# Altium integrated library FPGA Generic.IntLib: 1651 symbols (part 12 of 20)
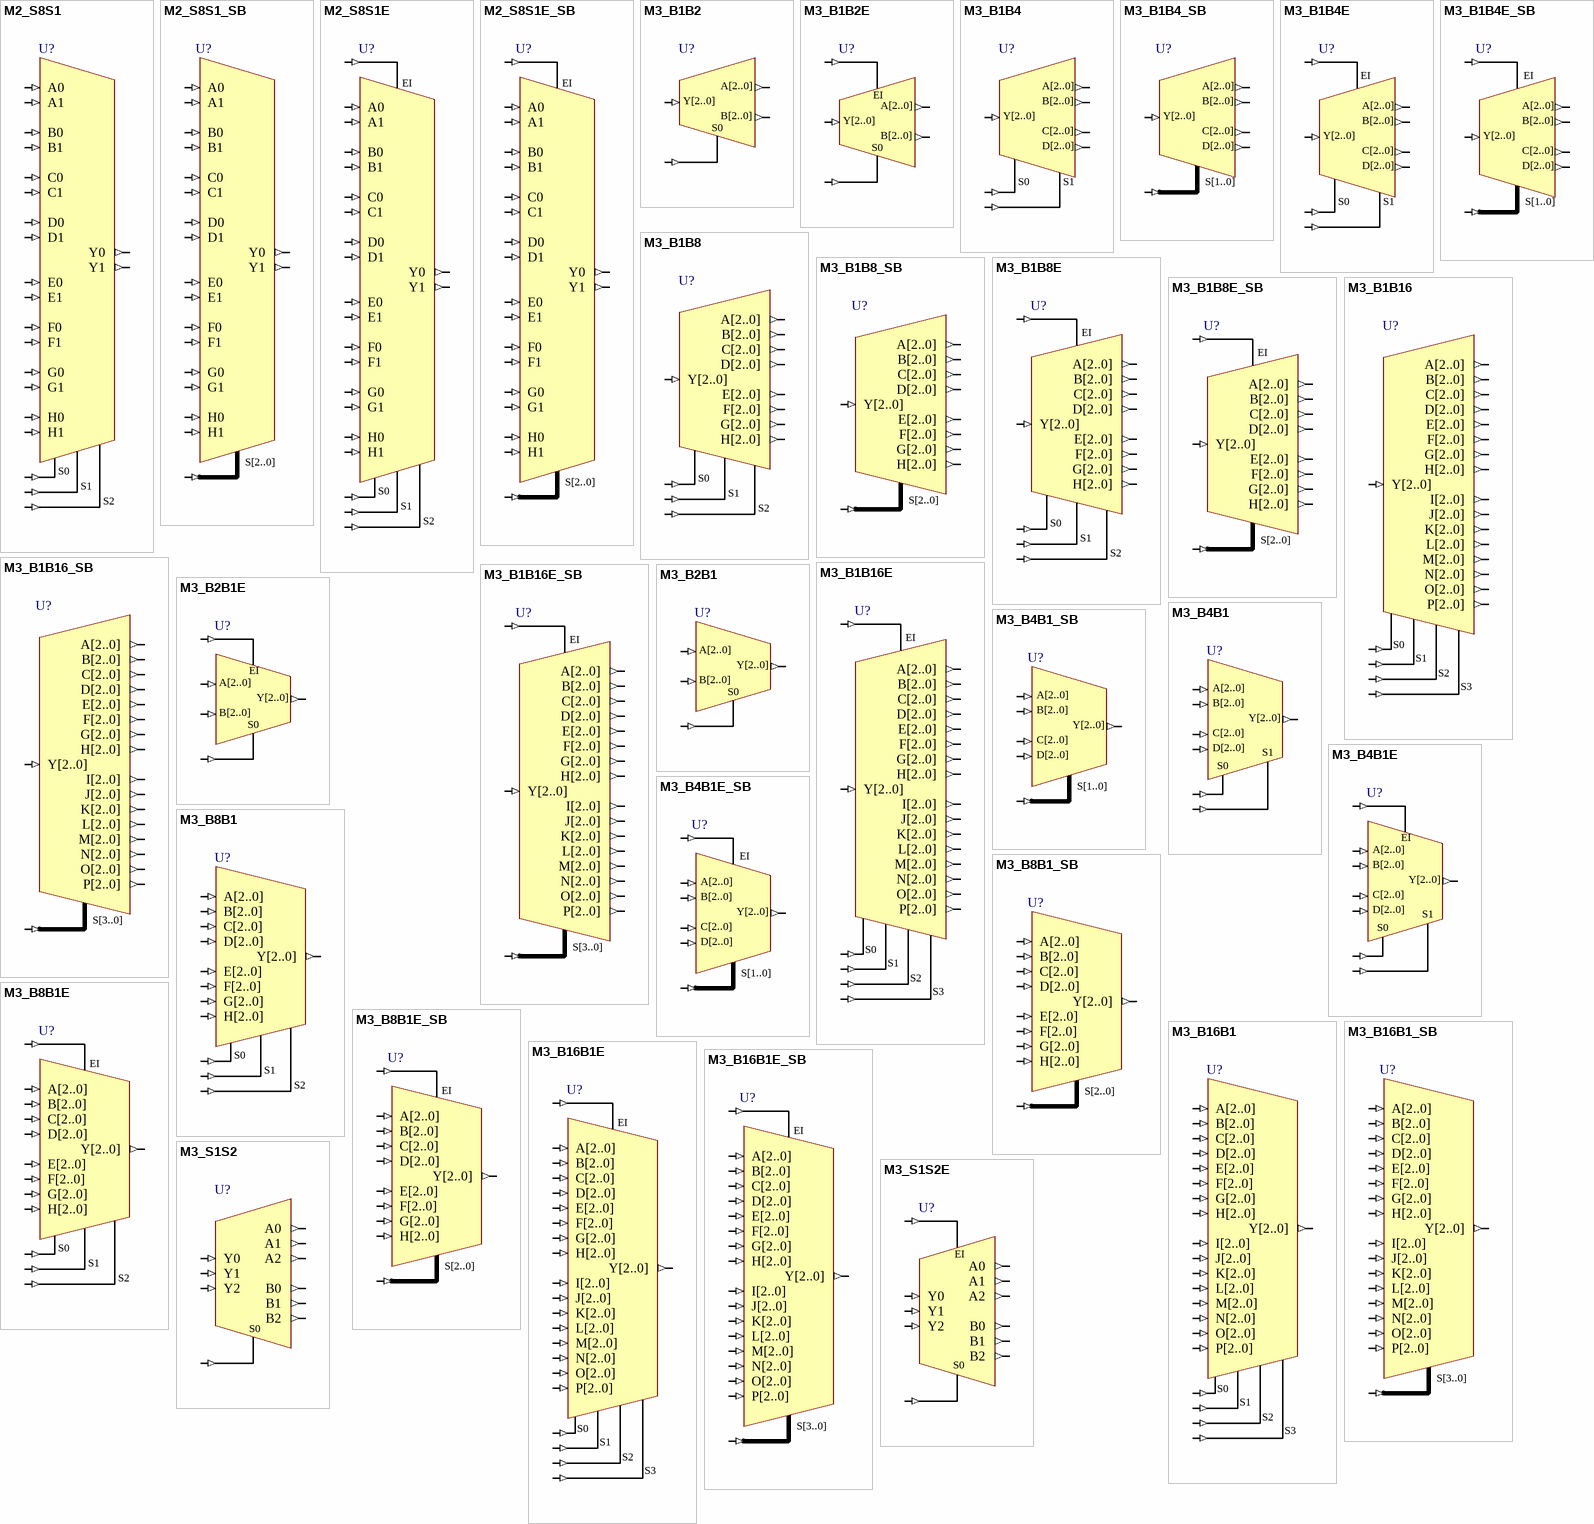
[diagram p54: symbols M2_S8S1 to M3_S1S2E]

## M3_B16B1E
designator U?
16x3-Bit Bus to 1x3-Bit Bus Multiplexer With Enable; SubClass: BnB1; Enable: High; PortSize: 3; ArchiveName: GENERIC; VHDLIB_SIM: GENERIC_LIB; Published: 29-Jan-2004; Publisher: Altium Limited; LastRevisionNo: 1.00.00; HelpURL: CR0118 FPGA Generic Library Guide.pdf#page=393; ComponentLink1URL: CR0137 FPGA Multiplexer Resource Usage.pdf#page=138; ComponentLink1Description: Core &Resource Usage; FunctionalClass: Multiplexer
pins: A[2..0] (in), B[2..0] (in), C[2..0] (in), D[2..0] (in), E[2..0] (in), EI (in), F[2..0] (in), G[2..0] (in), H[2..0] (in), I[2..0] (in), J[2..0] (in), K[2..0] (in), L[2..0] (in), M[2..0] (in), N[2..0] (in), O[2..0] (in), P[2..0] (in), S0 (in), S1 (in), S2 (in), S3 (in), Y[2..0] (out)

## M3_B16B1E_SB
designator U?
16x3-Bit Bus to 1x3-Bit Bus Multiplexer With Enable and Bus Version Select; SubClass: BnB1; Enable: High; BusBusSelect: True; PortSize: 3; ArchiveName: GENERIC; VHDLIB_SIM: GENERIC_LIB; Published: 29-Jan-2004; Publisher: Altium Limited; LastRevisionNo: 1.00.00; HelpURL: CR0118 FPGA Generic Library Guide.pdf#page=393; ComponentLink1URL: CR0137 FPGA Multiplexer Resource Usage.pdf#page=139; ComponentLink1Description: Core &Resource Usage; FunctionalClass: Multiplexer
pins: A[2..0] (in), B[2..0] (in), C[2..0] (in), D[2..0] (in), E[2..0] (in), EI (in), F[2..0] (in), G[2..0] (in), H[2..0] (in), I[2..0] (in), J[2..0] (in), K[2..0] (in), L[2..0] (in), M[2..0] (in), N[2..0] (in), O[2..0] (in), P[2..0] (in), S[3..0] (in), Y[2..0] (out)

## M3_S1S2
designator U?
1x3-Single Wire to 2x3-Single Wire Multiplexer (Demultiplex); SubClass: S1Sn; PortSize: 3; PortStyle: Single Pin Version; ArchiveName: GENERIC; VHDLIB_SIM: GENERIC_LIB; Published: 29-Jan-2004; Publisher: Altium Limited; LastRevisionNo: 1.00.00; HelpURL: CR0118 FPGA Generic Library Guide.pdf#page=328; ComponentLink1URL: CR0137 FPGA Multiplexer Resource Usage.pdf#page=140; ComponentLink1Description: Core &Resource Usage; FunctionalClass: Multiplexer
pins: A0 (out), A1 (out), A2 (out), B0 (out), B1 (out), B2 (out), S0 (in), Y0 (in), Y1 (in), Y2 (in)

## M3_S1S2E
designator U?
1x3-Single Wire to 1x3-Single Wire Multiplexer (Demultiplex) With Enable; SubClass: S1Sn; Enable: High; PortSize: 3; PortStyle: Single Pin Version; ArchiveName: GENERIC; VHDLIB_SIM: GENERIC_LIB; Published: 29-Jan-2004; Publisher: Altium Limited; LastRevisionNo: 1.00.00; HelpURL: CR0118 FPGA Generic Library Guide.pdf#page=331; ComponentLink1URL: CR0137 FPGA Multiplexer Resource Usage.pdf#page=141; ComponentLink1Description: Core &Resource Usage; FunctionalClass: Multiplexer
pins: A0 (out), A1 (out), A2 (out), B0 (out), B1 (out), B2 (out), EI (in), S0 (in), Y0 (in), Y1 (in), Y2 (in)

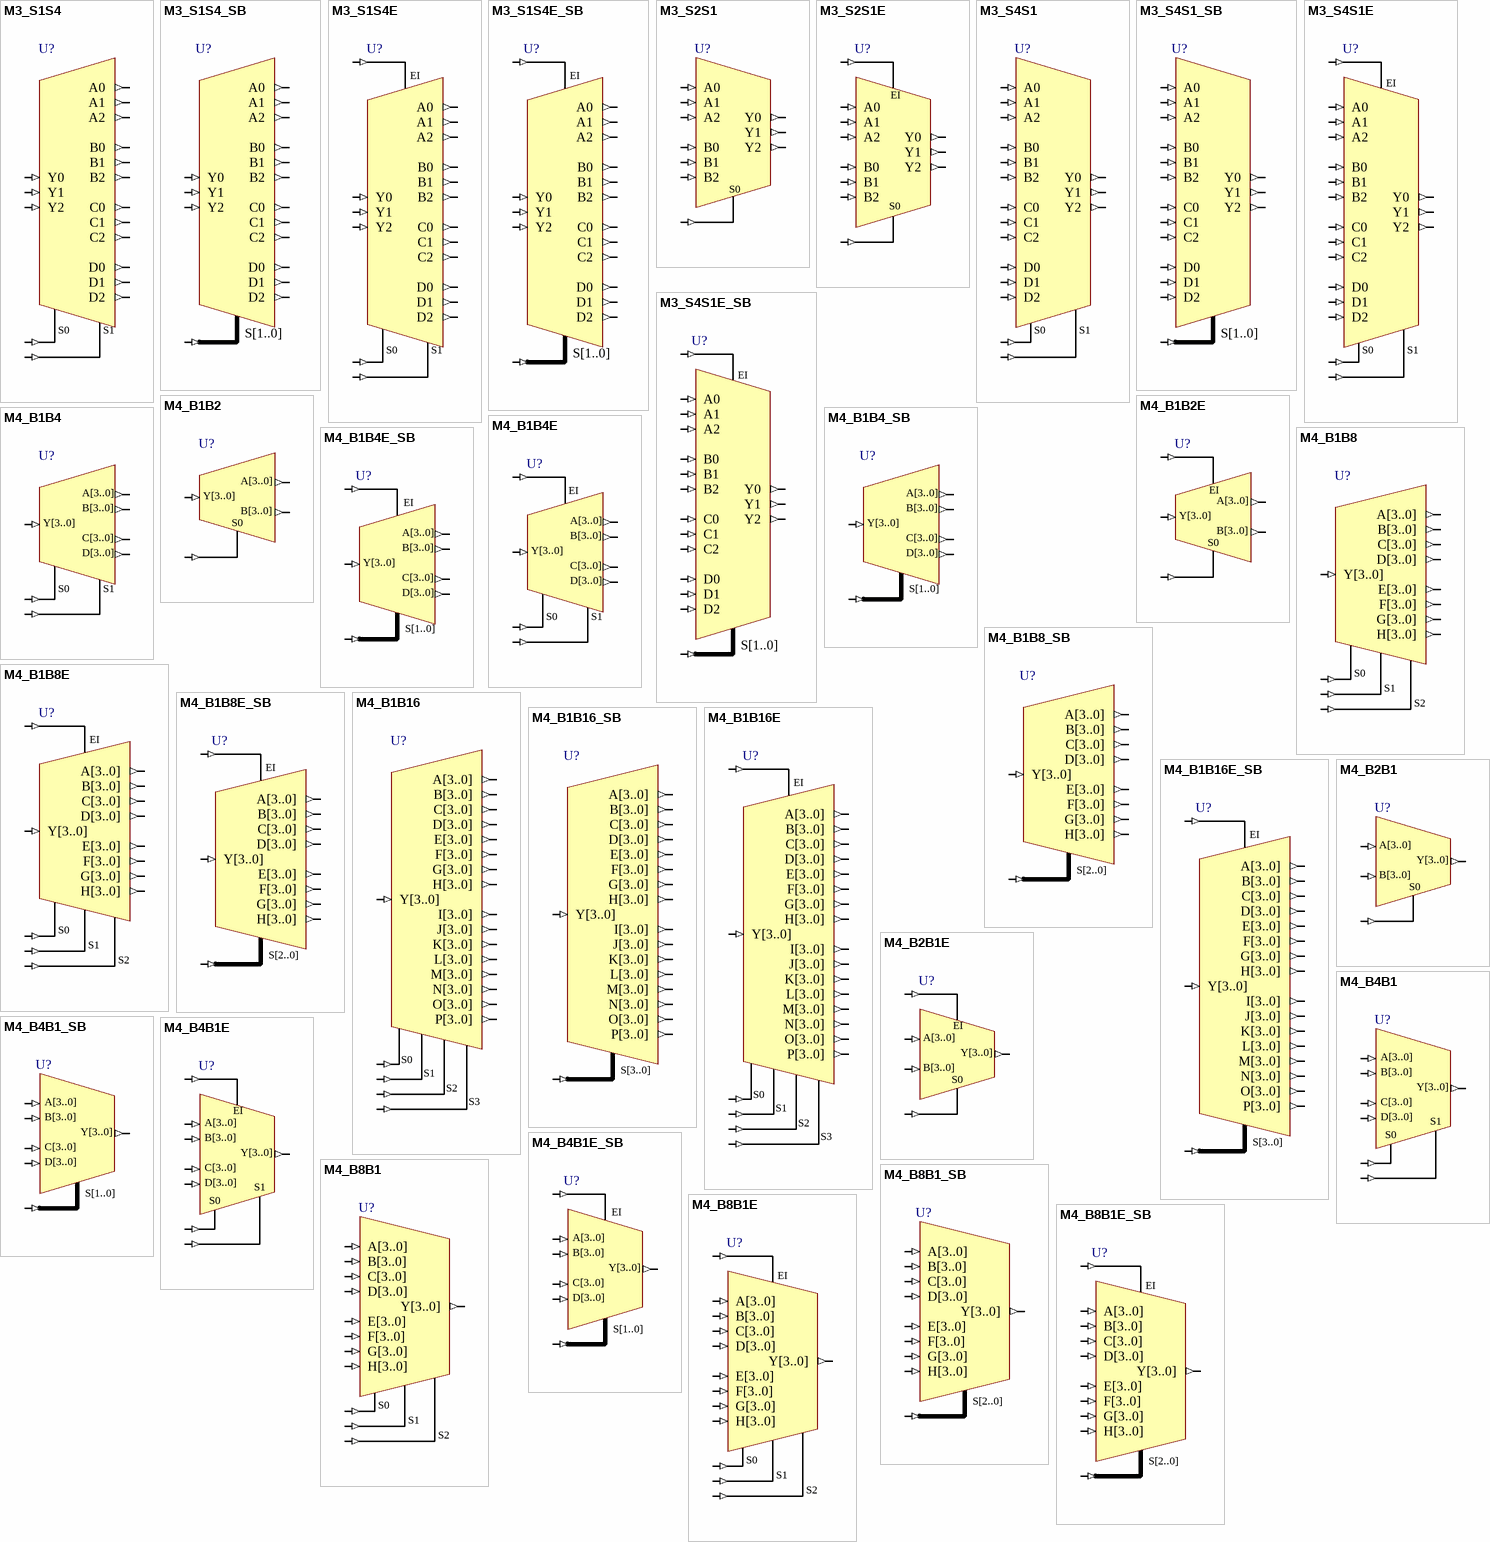
[diagram p24: symbols M3_S1S4 to M4_B8B1E_SB]

## M3_S1S4
designator U?
1x3-Single Wire to 4x3-Single Wire Multiplexer (Demultiplex); SubClass: S1Sn; PortSize: 3; PortStyle: Single Pin Version; ArchiveName: GENERIC; VHDLIB_SIM: GENERIC_LIB; Published: 29-Jan-2004; Publisher: Altium Limited; LastRevisionNo: 1.00.00; HelpURL: CR0118 FPGA Generic Library Guide.pdf#page=335; ComponentLink1URL: CR0137 FPGA Multiplexer Resource Usage.pdf#page=142; ComponentLink1Description: Core &Resource Usage; FunctionalClass: Multiplexer
pins: A0 (out), A1 (out), A2 (out), B0 (out), B1 (out), B2 (out), C0 (out), C1 (out), C2 (out), D0 (out), D1 (out), D2 (out), S0 (in), S1 (in), Y0 (in), Y1 (in), Y2 (in)

## M3_S1S4_SB
designator U?
1x3-Single Wire to 4x3-Single Wire Multiplexer (Demultiplex) With Bus Version Select; SubClass: S1Sn; BusBusSelect: True; PortSize: 3; PortStyle: Single Pin Version; ArchiveName: GENERIC; VHDLIB_SIM: GENERIC_LIB; Published: 31-May-2004; Publisher: Altium Limited; LastRevisionNo: 1.00.00; HelpURL: CR0118 FPGA Generic Library Guide.pdf#page=335; ComponentLink1URL: CR0137 FPGA Multiplexer Resource Usage.pdf#page=143; ComponentLink1Description: Core &Resource Usage; FunctionalClass: Multiplexer
pins: A0 (out), A1 (out), A2 (out), B0 (out), B1 (out), B2 (out), C0 (out), C1 (out), C2 (out), D0 (out), D1 (out), D2 (out), S[1..0] (in), Y0 (in), Y1 (in), Y2 (in)

## M3_S1S4E
designator U?
1x3-Single Wire to 1x3-Single Wire Multiplexer (Demultiplex) With Enable; SubClass: S1Sn; Enable: High; PortSize: 3; PortStyle: Single Pin Version; ArchiveName: GENERIC; VHDLIB_SIM: GENERIC_LIB; Published: 29-Jan-2004; Publisher: Altium Limited; LastRevisionNo: 1.00.00; HelpURL: CR0118 FPGA Generic Library Guide.pdf#page=339; ComponentLink1URL: CR0137 FPGA Multiplexer Resource Usage.pdf#page=144; ComponentLink1Description: Core &Resource Usage; FunctionalClass: Multiplexer
pins: A0 (out), A1 (out), A2 (out), B0 (out), B1 (out), B2 (out), C0 (out), C1 (out), C2 (out), D0 (out), D1 (out), D2 (out), EI (in), S0 (in), S1 (in), Y0 (in), Y1 (in), Y2 (in)

## M3_S1S4E_SB
designator U?
1x3-Single Wire to 1x3-Single Wire Multiplexer (Demultiplex) With Enable With Bus Version Select; SubClass: S1Sn; Enable: High; BusBusSelect: True; PortSize: 3; PortStyle: Single Pin Version; ArchiveName: GENERIC; VHDLIB_SIM: GENERIC_LIB; Published: 31-May-2004; Publisher: Altium Limited; LastRevisionNo: 1.00.00; HelpURL: CR0118 FPGA Generic Library Guide.pdf#page=339; ComponentLink1URL: CR0137 FPGA Multiplexer Resource Usage.pdf#page=145; ComponentLink1Description: Core &Resource Usage; FunctionalClass: Multiplexer
pins: A0 (out), A1 (out), A2 (out), B0 (out), B1 (out), B2 (out), C0 (out), C1 (out), C2 (out), D0 (out), D1 (out), D2 (out), EI (in), S[1..0] (in), Y0 (in), Y1 (in), Y2 (in)

## M3_S2S1
designator U?
2x3-Single Wire to 1x3-Single Wire Multiplexer; SubClass: SnS1; PortSize: 3; PortStyle: Single Pin Version; ArchiveName: GENERIC; VHDLIB_SIM: GENERIC_LIB; Published: 29-Jan-2004; Publisher: Altium Limited; LastRevisionNo: 1.00.00; HelpURL: CR0118 FPGA Generic Library Guide.pdf#page=366; ComponentLink1URL: CR0137 FPGA Multiplexer Resource Usage.pdf#page=146; ComponentLink1Description: Core &Resource Usage; FunctionalClass: Multiplexer
pins: A0 (in), A1 (in), A2 (in), B0 (in), B1 (in), B2 (in), S0 (in), Y0 (out), Y1 (out), Y2 (out)

## M3_S2S1E
designator U?
2x3-Single Wire to 2x3-Single Wire Multiplexer With Enable; SubClass: SnS1; Enable: High; PortSize: 3; PortStyle: Single Pin Version; ArchiveName: GENERIC; VHDLIB_SIM: GENERIC_LIB; Published: 29-Jan-2004; Publisher: Altium Limited; LastRevisionNo: 1.00.00; HelpURL: CR0118 FPGA Generic Library Guide.pdf#page=366; ComponentLink1URL: CR0137 FPGA Multiplexer Resource Usage.pdf#page=147; ComponentLink1Description: Core &Resource Usage; FunctionalClass: Multiplexer
pins: A0 (in), A1 (in), A2 (in), B0 (in), B1 (in), B2 (in), EI (in), S0 (in), Y0 (out), Y1 (out), Y2 (out)

## M3_S4S1
designator U?
4x3-Single Wire to 1x3-Single Wire Multiplexer; SubClass: SnS1; PortSize: 3; PortStyle: Single Pin Version; ArchiveName: GENERIC; VHDLIB_SIM: GENERIC_LIB; Published: 29-Jan-2004; Publisher: Altium Limited; LastRevisionNo: 1.00.00; HelpURL: CR0118 FPGA Generic Library Guide.pdf#page=374; ComponentLink1URL: CR0137 FPGA Multiplexer Resource Usage.pdf#page=148; ComponentLink1Description: Core &Resource Usage; FunctionalClass: Multiplexer
pins: A0 (in), A1 (in), A2 (in), B0 (in), B1 (in), B2 (in), C0 (in), C1 (in), C2 (in), D0 (in), D1 (in), D2 (in), S0 (in), S1 (in), Y0 (out), Y1 (out), Y2 (out)

## M3_S4S1_SB
designator U?
4x3-Single Wire to 1x3-Single Wire Multiplexer With Bus Version Select; SubClass: SnS1; BusBusSelect: True; PortSize: 3; PortStyle: Single Pin Version; ArchiveName: GENERIC; VHDLIB_SIM: GENERIC_LIB; Published: 31-May-2004; Publisher: Altium Limited; LastRevisionNo: 1.00.00; HelpURL: CR0118 FPGA Generic Library Guide.pdf#page=370; ComponentLink1URL: CR0137 FPGA Multiplexer Resource Usage.pdf#page=149; ComponentLink1Description: Core &Resource Usage; FunctionalClass: Multiplexer
pins: A0 (in), A1 (in), A2 (in), B0 (in), B1 (in), B2 (in), C0 (in), C1 (in), C2 (in), D0 (in), D1 (in), D2 (in), S[1..0] (in), Y0 (out), Y1 (out), Y2 (out)

## M3_S4S1E
designator U?
4x3-Single Wire to 4x3-Single Wire Multiplexer With Enable; SubClass: SnS1; Enable: High; PortSize: 3; PortStyle: Single Pin Version; ArchiveName: GENERIC; VHDLIB_SIM: GENERIC_LIB; Published: 29-Jan-2004; Publisher: Altium Limited; LastRevisionNo: 1.00.00; HelpURL: CR0118 FPGA Generic Library Guide.pdf#page=374; ComponentLink1URL: CR0137 FPGA Multiplexer Resource Usage.pdf#page=150; ComponentLink1Description: Core &Resource Usage; FunctionalClass: Multiplexer
pins: A0 (in), A1 (in), A2 (in), B0 (in), B1 (in), B2 (in), C0 (in), C1 (in), C2 (in), D0 (in), D1 (in), D2 (in), EI (in), S0 (in), S1 (in), Y0 (out), Y1 (out), Y2 (out)

## M3_S4S1E_SB
designator U?
4x3-Single Wire to 4x3-Single Wire Multiplexer With Enable With Bus Version Select; SubClass: BnB1; Enable: High; BusBusSelect: True; PortSize: 3; ArchiveName: GENERIC; VHDLIB_SIM: GENERIC_LIB; Published: 31-May-2004; Publisher: Altium Limited; LastRevisionNo: 1.00.00; HelpURL: CR0118 FPGA Generic Library Guide.pdf#page=374; ComponentLink1URL: CR0137 FPGA Multiplexer Resource Usage.pdf#page=151; ComponentLink1Description: Core &Resource Usage; FunctionalClass: Multiplexer
pins: A0 (in), A1 (in), A2 (in), B0 (in), B1 (in), B2 (in), C0 (in), C1 (in), C2 (in), D0 (in), D1 (in), D2 (in), EI (in), S[1..0] (in), Y0 (out), Y1 (out), Y2 (out)

## M4_B1B2
designator U?
1x4-Bit Bus to 2x4-Bit Bus Multiplexer (Demultiplex); SubClass: B1Bn; PortSize: 4; PortStyle: Bus Version; ArchiveName: GENERIC; VHDLIB_SIM: GENERIC_LIB; Published: 29-Jan-2004; Publisher: Altium Limited; LastRevisionNo: 1.00.00; HelpURL: CR0118 FPGA Generic Library Guide.pdf#page=328; ComponentLink1URL: CR0137 FPGA Multiplexer Resource Usage.pdf#page=152; ComponentLink1Description: Core &Resource Usage; FunctionalClass: Multiplexer
pins: A[3..0] (out), B[3..0] (out), S0 (in), Y[3..0] (in)

## M4_B1B2E
designator U?
1x4-Bit Bus to 2x4-Bit Bus Multiplexer (Demultiplex)  With Enable; SubClass: B1Bn; Enable: High; PortSize: 4; PortStyle: Bus Version; ArchiveName: GENERIC; VHDLIB_SIM: GENERIC_LIB; Published: 29-Jan-2004; Publisher: Altium Limited; LastRevisionNo: 1.00.00; HelpURL: CR0118 FPGA Generic Library Guide.pdf#page=331; ComponentLink1URL: CR0137 FPGA Multiplexer Resource Usage.pdf#page=153; ComponentLink1Description: Core &Resource Usage; FunctionalClass: Multiplexer
pins: A[3..0] (out), B[3..0] (out), EI (in), S0 (in), Y[3..0] (in)

## M4_B1B4
designator U?
1x4-Bit Bus to 4x4-Bit Bus Multiplexer (Demultiplex); SubClass: B1Bn; PortSize: 4; PortStyle: Bus Version; ArchiveName: GENERIC; VHDLIB_SIM: GENERIC_LIB; Published: 29-Jan-2004; Publisher: Altium Limited; LastRevisionNo: 1.00.00; HelpURL: CR0118 FPGA Generic Library Guide.pdf#page=335; ComponentLink1URL: CR0137 FPGA Multiplexer Resource Usage.pdf#page=154; ComponentLink1Description: Core &Resource Usage; FunctionalClass: Multiplexer
pins: A[3..0] (out), B[3..0] (out), C[3..0] (out), D[3..0] (out), S0 (in), S1 (in), Y[3..0] (in)

## M4_B1B4_SB
designator U?
1x4-Bit Bus to 4x4-Bit Bus Multiplexer (Demultiplex) With Bus Version Select; SubClass: B1Bn; BusBusSelect: True; PortSize: 4; ArchiveName: GENERIC; VHDLIB_SIM: GENERIC_LIB; Published: 31-May-2004; Publisher: Altium Limited; LastRevisionNo: 1.00.00; HelpURL: CR0118 FPGA Generic Library Guide.pdf#page=335; ComponentLink1URL: CR0137 FPGA Multiplexer Resource Usage.pdf#page=155; ComponentLink1Description: Core &Resource Usage; FunctionalClass: Multiplexer; PortStyle: Bus Version
pins: A[3..0] (out), B[3..0] (out), C[3..0] (out), D[3..0] (out), S[1..0] (in), Y[3..0] (in)

## M4_B1B4E
designator U?
1x4-Bit Bus to 4x4-Bit Bus Multiplexer (Demultiplex)  With Enable; SubClass: B1Bn; Enable: High; PortSize: 4; PortStyle: Bus Version; ArchiveName: GENERIC; VHDLIB_SIM: GENERIC_LIB; Published: 29-Jan-2004; Publisher: Altium Limited; LastRevisionNo: 1.00.00; HelpURL: CR0118 FPGA Generic Library Guide.pdf#page=339; ComponentLink1URL: CR0137 FPGA Multiplexer Resource Usage.pdf#page=156; ComponentLink1Description: Core &Resource Usage; FunctionalClass: Multiplexer
pins: A[3..0] (out), B[3..0] (out), C[3..0] (out), D[3..0] (out), EI (in), S0 (in), S1 (in), Y[3..0] (in)

## M4_B1B4E_SB
designator U?
1x4-Bit Bus to 4x4-Bit Bus Multiplexer (Demultiplex)  With Enable With Bus Version Select; SubClass: B1Bn; Enable: High; BusBusSelect: True; PortSize: 4; ArchiveName: GENERIC; VHDLIB_SIM: GENERIC_LIB; Published: 31-May-2004; Publisher: Altium Limited; LastRevisionNo: 1.00.00; HelpURL: CR0118 FPGA Generic Library Guide.pdf#page=339; ComponentLink1URL: CR0137 FPGA Multiplexer Resource Usage.pdf#page=157; ComponentLink1Description: Core &Resource Usage; FunctionalClass: Multiplexer; PortStyle: Bus Version
pins: A[3..0] (out), B[3..0] (out), C[3..0] (out), D[3..0] (out), EI (in), S[1..0] (in), Y[3..0] (in)

## M4_B1B8
designator U?
1x4-Bit Bus to 8x4-Bit Bus Multiplexer (Demultiplex); SubClass: B1Bn; PortSize: 4; PortStyle: Bus Version; ArchiveName: GENERIC; VHDLIB_SIM: GENERIC_LIB; Published: 29-Jan-2004; Publisher: Altium Limited; LastRevisionNo: 1.00.00; HelpURL: CR0118 FPGA Generic Library Guide.pdf#page=345; ComponentLink1URL: CR0137 FPGA Multiplexer Resource Usage.pdf#page=158; ComponentLink1Description: Core &Resource Usage; FunctionalClass: Multiplexer
pins: A[3..0] (out), B[3..0] (out), C[3..0] (out), D[3..0] (out), E[3..0] (out), F[3..0] (out), G[3..0] (out), H[3..0] (out), S0 (in), S1 (in), S2 (in), Y[3..0] (in)

## M4_B1B8_SB
designator U?
1x4-Bit Bus to 8x4-Bit Bus Multiplexer (Demultiplex) With Bus Version Select; SubClass: B1Bn; BusBusSelect: True; PortSize: 4; ArchiveName: GENERIC; VHDLIB_SIM: GENERIC_LIB; Published: 31-May-2004; Publisher: Altium Limited; LastRevisionNo: 1.00.00; HelpURL: CR0118 FPGA Generic Library Guide.pdf#page=345; ComponentLink1URL: CR0137 FPGA Multiplexer Resource Usage.pdf#page=159; ComponentLink1Description: Core &Resource Usage; FunctionalClass: Multiplexer; PortStyle: Bus Version
pins: A[3..0] (out), B[3..0] (out), C[3..0] (out), D[3..0] (out), E[3..0] (out), F[3..0] (out), G[3..0] (out), H[3..0] (out), S[2..0] (in), Y[3..0] (in)

## M4_B1B8E
designator U?
1x4-Bit Bus to 8x4-Bit Bus Multiplexer (Demultiplex)  With Enable; SubClass: B1Bn; Enable: High; PortSize: 4; PortStyle: Bus Version; ArchiveName: GENERIC; VHDLIB_SIM: GENERIC_LIB; Published: 29-Jan-2004; Publisher: Altium Limited; LastRevisionNo: 1.00.00; HelpURL: CR0118 FPGA Generic Library Guide.pdf#page=350; ComponentLink1URL: CR0137 FPGA Multiplexer Resource Usage.pdf#page=160; ComponentLink1Description: Core &Resource Usage; FunctionalClass: Multiplexer
pins: A[3..0] (out), B[3..0] (out), C[3..0] (out), D[3..0] (out), E[3..0] (out), EI (in), F[3..0] (out), G[3..0] (out), H[3..0] (out), S0 (in), S1 (in), S2 (in), Y[3..0] (in)

## M4_B1B8E_SB
designator U?
1x4-Bit Bus to 8x4-Bit Bus Multiplexer (Demultiplex)  With Enable With Bus Version Select; SubClass: B1Bn; Enable: High; BusBusSelect: True; PortSize: 4; ArchiveName: GENERIC; VHDLIB_SIM: GENERIC_LIB; Published: 31-May-2004; Publisher: Altium Limited; LastRevisionNo: 1.00.00; HelpURL: CR0118 FPGA Generic Library Guide.pdf#page=350; ComponentLink1URL: CR0137 FPGA Multiplexer Resource Usage.pdf#page=161; ComponentLink1Description: Core &Resource Usage; FunctionalClass: Multiplexer; PortStyle: Bus Version
pins: A[3..0] (out), B[3..0] (out), C[3..0] (out), D[3..0] (out), E[3..0] (out), EI (in), F[3..0] (out), G[3..0] (out), H[3..0] (out), S[2..0] (in), Y[3..0] (in)

## M4_B1B16
designator U?
1x4-Bit Bus to 16x4-Bit Bus Multiplexer (Demultiplex); SubClass: B1Bn; PortSize: 4; PortStyle: Bus Version; ArchiveName: GENERIC; VHDLIB_SIM: GENERIC_LIB; Published: 29-Jan-2004; Publisher: Altium Limited; LastRevisionNo: 1.00.00; HelpURL: CR0118 FPGA Generic Library Guide.pdf#page=355; ComponentLink1URL: CR0137 FPGA Multiplexer Resource Usage.pdf#page=162; ComponentLink1Description: Core &Resource Usage; FunctionalClass: Multiplexer
pins: A[3..0] (out), B[3..0] (out), C[3..0] (out), D[3..0] (out), E[3..0] (out), F[3..0] (out), G[3..0] (out), H[3..0] (out), I[3..0] (out), J[3..0] (out), K[3..0] (out), L[3..0] (out), M[3..0] (out), N[3..0] (out), O[3..0] (out), P[3..0] (out), S0 (in), S1 (in), S2 (in), S3 (in), Y[3..0] (in)

## M4_B1B16_SB
designator U?
1x4-Bit Bus to 16x4-Bit Bus Multiplexer (Demultiplex) With Bus Version Select; SubClass: B1Bn; BusBusSelect: True; PortSize: 4; ArchiveName: GENERIC; VHDLIB_SIM: GENERIC_LIB; Published: 29-Jan-2004; Publisher: Altium Limited; LastRevisionNo: 1.00.00; HelpURL: CR0118 FPGA Generic Library Guide.pdf#page=355; ComponentLink1URL: CR0137 FPGA Multiplexer Resource Usage.pdf#page=163; ComponentLink1Description: Core &Resource Usage; FunctionalClass: Multiplexer; PortStyle: Bus Version
pins: A[3..0] (out), B[3..0] (out), C[3..0] (out), D[3..0] (out), E[3..0] (out), F[3..0] (out), G[3..0] (out), H[3..0] (out), I[3..0] (out), J[3..0] (out), K[3..0] (out), L[3..0] (out), M[3..0] (out), N[3..0] (out), O[3..0] (out), P[3..0] (out), S[3..0] (in), Y[3..0] (in)

## M4_B1B16E
designator U?
1x4-Bit Bus to 16x4-Bit Bus Multiplexer (Demultiplex)  With Enable; SubClass: B1Bn; Enable: High; PortSize: 4; PortStyle: Bus Version; ArchiveName: GENERIC; VHDLIB_SIM: GENERIC_LIB; Published: 29-Jan-2004; Publisher: Altium Limited; LastRevisionNo: 1.00.00; HelpURL: CR0118 FPGA Generic Library Guide.pdf#page=360; ComponentLink1URL: CR0137 FPGA Multiplexer Resource Usage.pdf#page=164; ComponentLink1Description: Core &Resource Usage; FunctionalClass: Multiplexer
pins: A[3..0] (out), B[3..0] (out), C[3..0] (out), D[3..0] (out), E[3..0] (out), EI (in), F[3..0] (out), G[3..0] (out), H[3..0] (out), I[3..0] (out), J[3..0] (out), K[3..0] (out), L[3..0] (out), M[3..0] (out), N[3..0] (out), O[3..0] (out), P[3..0] (out), S0 (in), S1 (in), S2 (in), S3 (in), Y[3..0] (in)

## M4_B1B16E_SB
designator U?
1x4-Bit Bus to 16x4-Bit Bus Multiplexer (Demultiplex) With Enable and Bus Version Select; SubClass: B1Bn; Enable: High; BusBusSelect: True; PortSize: 4; ArchiveName: GENERIC; VHDLIB_SIM: GENERIC_LIB; Published: 29-Jan-2004; Publisher: Altium Limited; LastRevisionNo: 1.00.00; HelpURL: CR0118 FPGA Generic Library Guide.pdf#page=360; ComponentLink1URL: CR0137 FPGA Multiplexer Resource Usage.pdf#page=165; ComponentLink1Description: Core &Resource Usage; FunctionalClass: Multiplexer; PortStyle: Bus Version
pins: A[3..0] (out), B[3..0] (out), C[3..0] (out), D[3..0] (out), E[3..0] (out), EI (in), F[3..0] (out), G[3..0] (out), H[3..0] (out), I[3..0] (out), J[3..0] (out), K[3..0] (out), L[3..0] (out), M[3..0] (out), N[3..0] (out), O[3..0] (out), P[3..0] (out), S[3..0] (in), Y[3..0] (in)

## M4_B2B1
designator U?
2x4-Bit Bus to 1x4-Bit Bus Multiplexer; SubClass: BnB1; PortSize: 4; PortStyle: Bus Version; ArchiveName: GENERIC; VHDLIB_SIM: GENERIC_LIB; Published: 29-Jan-2004; Publisher: Altium Limited; LastRevisionNo: 1.00.00; HelpURL: CR0118 FPGA Generic Library Guide.pdf#page=364; ComponentLink1URL: CR0137 FPGA Multiplexer Resource Usage.pdf#page=166; ComponentLink1Description: Core &Resource Usage; FunctionalClass: Multiplexer
pins: A[3..0] (in), B[3..0] (in), S0 (in), Y[3..0] (out)

## M4_B2B1E
designator U?
2x4-Bit Bus to 1x4-Bit Bus Multiplexer With Enable; SubClass: BnB1; Enable: High; PortSize: 4; PortStyle: Bus Version; ArchiveName: GENERIC; VHDLIB_SIM: GENERIC_LIB; Published: 29-Jan-2004; Publisher: Altium Limited; LastRevisionNo: 1.00.00; HelpURL: CR0118 FPGA Generic Library Guide.pdf#page=366; ComponentLink1URL: CR0137 FPGA Multiplexer Resource Usage.pdf#page=167; ComponentLink1Description: Core &Resource Usage; FunctionalClass: Multiplexer
pins: A[3..0] (in), B[3..0] (in), EI (in), S0 (in), Y[3..0] (out)

## M4_B4B1
designator U?
4x4-Bit Bus to 1x4-Bit Bus Multiplexer; SubClass: BnB1; PortSize: 4; PortStyle: Bus Version; ArchiveName: GENERIC; VHDLIB_SIM: GENERIC_LIB; Published: 29-Jan-2004; Publisher: Altium Limited; LastRevisionNo: 1.00.00; HelpURL: CR0118 FPGA Generic Library Guide.pdf#page=370; ComponentLink1URL: CR0137 FPGA Multiplexer Resource Usage.pdf#page=168; ComponentLink1Description: Core &Resource Usage; FunctionalClass: Multiplexer
pins: A[3..0] (in), B[3..0] (in), C[3..0] (in), D[3..0] (in), S0 (in), S1 (in), Y[3..0] (out)

## M4_B4B1_SB
designator U?
4x4-Bit Bus to 1x4-Bit Bus Multiplexer With Bus Version Select; SubClass: BnB1; BusBusSelect: True; PortSize: 4; ArchiveName: GENERIC; VHDLIB_SIM: GENERIC_LIB; Published: 31-May-2004; Publisher: Altium Limited; LastRevisionNo: 1.00.00; HelpURL: CR0118 FPGA Generic Library Guide.pdf#page=370; ComponentLink1URL: CR0137 FPGA Multiplexer Resource Usage.pdf#page=169; ComponentLink1Description: Core &Resource Usage; FunctionalClass: Multiplexer; PortStyle: Bus Version
pins: A[3..0] (in), B[3..0] (in), C[3..0] (in), D[3..0] (in), S[1..0] (in), Y[3..0] (out)

## M4_B4B1E
designator U?
4x4-Bit Bus to 1x4-Bit Bus Multiplexer With Enable; SubClass: BnB1; Enable: High; PortSize: 4; PortStyle: Bus Version; ArchiveName: GENERIC; VHDLIB_SIM: GENERIC_LIB; Published: 29-Jan-2004; Publisher: Altium Limited; LastRevisionNo: 1.00.00; HelpURL: CR0118 FPGA Generic Library Guide.pdf#page=374; ComponentLink1URL: CR0137 FPGA Multiplexer Resource Usage.pdf#page=170; ComponentLink1Description: Core &Resource Usage; FunctionalClass: Multiplexer
pins: A[3..0] (in), B[3..0] (in), C[3..0] (in), D[3..0] (in), EI (in), S0 (in), S1 (in), Y[3..0] (out)

## M4_B4B1E_SB
designator U?
4x4-Bit Bus to 1x4-Bit Bus Multiplexer With Enable With Bus Version Select; SubClass: BnB1; Enable: High; BusBusSelect: True; PortSize: 4; ArchiveName: GENERIC; VHDLIB_SIM: GENERIC_LIB; Published: 31-May-2004; Publisher: Altium Limited; LastRevisionNo: 1.00.00; HelpURL: CR0118 FPGA Generic Library Guide.pdf#page=374; ComponentLink1URL: CR0137 FPGA Multiplexer Resource Usage.pdf#page=171; ComponentLink1Description: Core &Resource Usage; FunctionalClass: Multiplexer; PortStyle: Bus Version
pins: A[3..0] (in), B[3..0] (in), C[3..0] (in), D[3..0] (in), EI (in), S[1..0] (in), Y[3..0] (out)

## M4_B8B1
designator U?
8x4-Bit Bus to 1x4-Bit Bus Multiplexer; SubClass: BnB1; PortSize: 4; PortStyle: Bus Version; ArchiveName: GENERIC; VHDLIB_SIM: GENERIC_LIB; Published: 29-Jan-2004; Publisher: Altium Limited; LastRevisionNo: 1.00.00; HelpURL: CR0118 FPGA Generic Library Guide.pdf#page=379; ComponentLink1URL: CR0137 FPGA Multiplexer Resource Usage.pdf#page=172; ComponentLink1Description: Core &Resource Usage; FunctionalClass: Multiplexer
pins: A[3..0] (in), B[3..0] (in), C[3..0] (in), D[3..0] (in), E[3..0] (in), F[3..0] (in), G[3..0] (in), H[3..0] (in), S0 (in), S1 (in), S2 (in), Y[3..0] (out)

## M4_B8B1_SB
designator U?
8x4-Bit Bus to 1x4-Bit Bus Multiplexer With Bus Version Select; SubClass: BnB1; BusBusSelect: True; PortSize: 4; ArchiveName: GENERIC; VHDLIB_SIM: GENERIC_LIB; Published: 31-May-2004; Publisher: Altium Limited; LastRevisionNo: 1.00.00; HelpURL: CR0118 FPGA Generic Library Guide.pdf#page=379; ComponentLink1URL: CR0137 FPGA Multiplexer Resource Usage.pdf#page=173; ComponentLink1Description: Core &Resource Usage; FunctionalClass: Multiplexer; PortStyle: Bus Version
pins: A[3..0] (in), B[3..0] (in), C[3..0] (in), D[3..0] (in), E[3..0] (in), F[3..0] (in), G[3..0] (in), H[3..0] (in), S[2..0] (in), Y[3..0] (out)

## M4_B8B1E
designator U?
8x4-Bit Bus to 1x4-Bit Bus Multiplexer With Enable; SubClass: BnB1; Enable: High; PortSize: 4; PortStyle: Bus Version; ArchiveName: GENERIC; VHDLIB_SIM: GENERIC_LIB; Published: 29-Jan-2004; Publisher: Altium Limited; LastRevisionNo: 1.00.00; HelpURL: CR0118 FPGA Generic Library Guide.pdf#page=383; ComponentLink1URL: CR0137 FPGA Multiplexer Resource Usage.pdf#page=174; ComponentLink1Description: Core &Resource Usage; FunctionalClass: Multiplexer
pins: A[3..0] (in), B[3..0] (in), C[3..0] (in), D[3..0] (in), E[3..0] (in), EI (in), F[3..0] (in), G[3..0] (in), H[3..0] (in), S0 (in), S1 (in), S2 (in), Y[3..0] (out)

## M4_B8B1E_SB
designator U?
8x4-Bit Bus to 1x4-Bit Bus Multiplexer With Enable With Bus Version Select; SubClass: BnB1; Enable: High; BusBusSelect: True; PortSize: 4; ArchiveName: GENERIC; VHDLIB_SIM: GENERIC_LIB; Published: 31-May-2004; Publisher: Altium Limited; LastRevisionNo: 1.00.00; HelpURL: CR0118 FPGA Generic Library Guide.pdf#page=383; ComponentLink1URL: CR0137 FPGA Multiplexer Resource Usage.pdf#page=175; ComponentLink1Description: Core &Resource Usage; FunctionalClass: Multiplexer; PortStyle: Bus Version
pins: A[3..0] (in), B[3..0] (in), C[3..0] (in), D[3..0] (in), E[3..0] (in), EI (in), F[3..0] (in), G[3..0] (in), H[3..0] (in), S[2..0] (in), Y[3..0] (out)

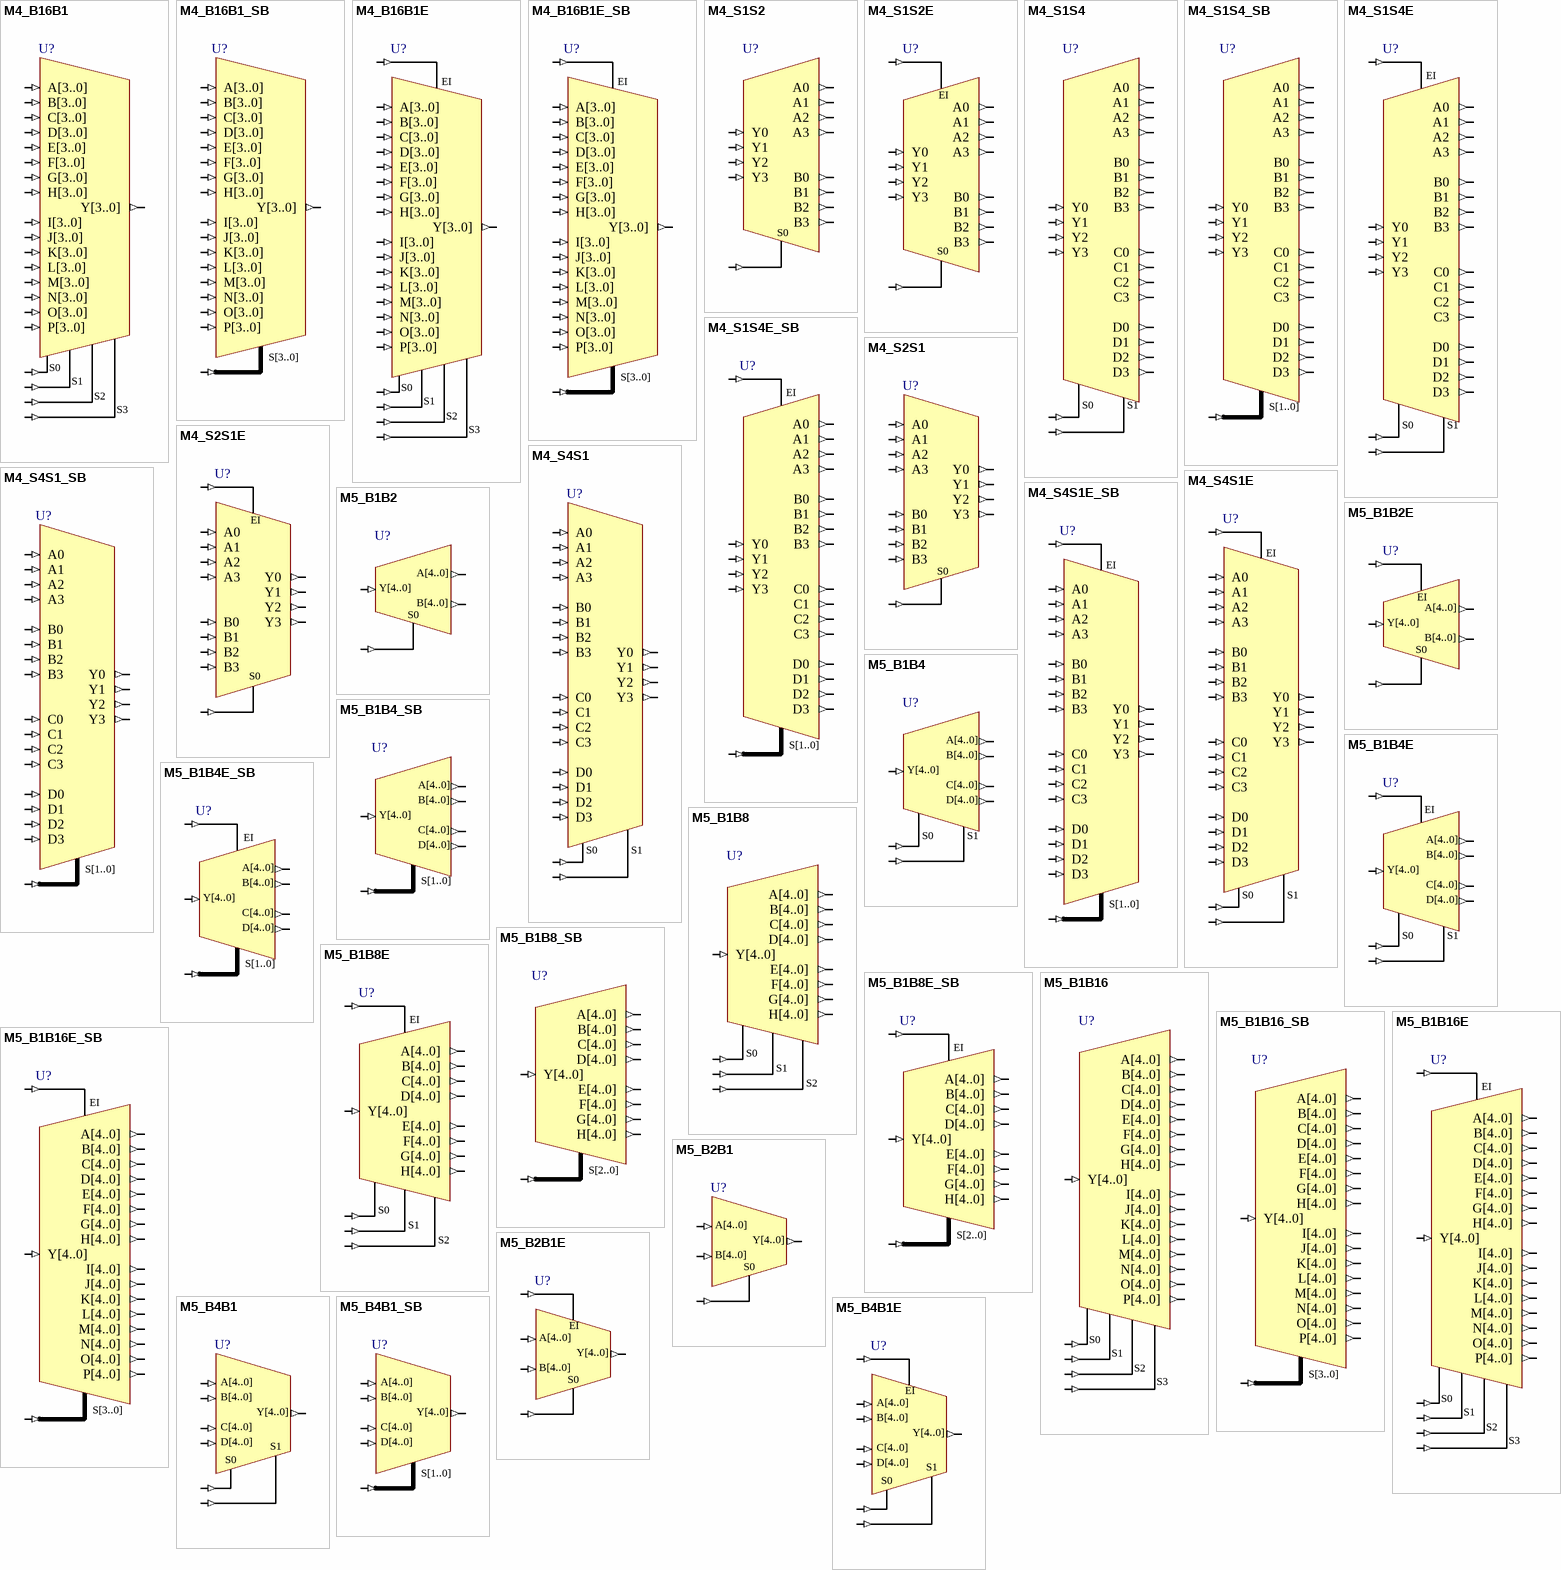
[diagram p25: symbols M4_B16B1 to M5_B4B1E]

## M4_B16B1
designator U?
16x4-Bit Bus to 1x4-Bit Bus Multiplexer; SubClass: BnB1; PortSize: 4; PortStyle: Bus Version; ArchiveName: GENERIC; VHDLIB_SIM: GENERIC_LIB; Published: 29-Jan-2004; Publisher: Altium Limited; LastRevisionNo: 1.00.00; HelpURL: CR0118 FPGA Generic Library Guide.pdf#page=388; ComponentLink1URL: CR0137 FPGA Multiplexer Resource Usage.pdf#page=176; ComponentLink1Description: Core &Resource Usage; FunctionalClass: Multiplexer
pins: A[3..0] (in), B[3..0] (in), C[3..0] (in), D[3..0] (in), E[3..0] (in), F[3..0] (in), G[3..0] (in), H[3..0] (in), I[3..0] (in), J[3..0] (in), K[3..0] (in), L[3..0] (in), M[3..0] (in), N[3..0] (in), O[3..0] (in), P[3..0] (in), S0 (in), S1 (in), S2 (in), S3 (in), Y[3..0] (out)

## M4_B16B1_SB
designator U?
16x4-Bit Bus to 1x4-Bit Bus Multiplexer With Bus Version Select; SubClass: BnB1; BusBusSelect: True; PortSize: 4; ArchiveName: GENERIC; VHDLIB_SIM: GENERIC_LIB; Published: 29-Jan-2004; Publisher: Altium Limited; LastRevisionNo: 1.00.00; HelpURL: CR0118 FPGA Generic Library Guide.pdf#page=388; ComponentLink1URL: CR0137 FPGA Multiplexer Resource Usage.pdf#page=177; ComponentLink1Description: Core &Resource Usage; FunctionalClass: Multiplexer; PortStyle: Bus Version
pins: A[3..0] (in), B[3..0] (in), C[3..0] (in), D[3..0] (in), E[3..0] (in), F[3..0] (in), G[3..0] (in), H[3..0] (in), I[3..0] (in), J[3..0] (in), K[3..0] (in), L[3..0] (in), M[3..0] (in), N[3..0] (in), O[3..0] (in), P[3..0] (in), S[3..0] (in), Y[3..0] (out)

## M4_B16B1E
designator U?
16x4-Bit Bus to 1x4-Bit Bus Multiplexer With Enable; SubClass: BnB1; Enable: High; PortSize: 4; PortStyle: Bus Version; ArchiveName: GENERIC; VHDLIB_SIM: GENERIC_LIB; Published: 29-Jan-2004; Publisher: Altium Limited; LastRevisionNo: 1.00.00; HelpURL: CR0118 FPGA Generic Library Guide.pdf#page=393; ComponentLink1URL: CR0137 FPGA Multiplexer Resource Usage.pdf#page=178; ComponentLink1Description: Core &Resource Usage; FunctionalClass: Multiplexer
pins: A[3..0] (in), B[3..0] (in), C[3..0] (in), D[3..0] (in), E[3..0] (in), EI (in), F[3..0] (in), G[3..0] (in), H[3..0] (in), I[3..0] (in), J[3..0] (in), K[3..0] (in), L[3..0] (in), M[3..0] (in), N[3..0] (in), O[3..0] (in), P[3..0] (in), S0 (in), S1 (in), S2 (in), S3 (in), Y[3..0] (out)

## M4_B16B1E_SB
designator U?
16x4-Bit Bus to 1x4-Bit Bus Multiplexer With Enable and Bus Version Select; SubClass: BnB1; Enable: High; BusBusSelect: True; PortSize: 4; ArchiveName: GENERIC; VHDLIB_SIM: GENERIC_LIB; Published: 29-Jan-2004; Publisher: Altium Limited; LastRevisionNo: 1.00.00; HelpURL: CR0118 FPGA Generic Library Guide.pdf#page=393; ComponentLink1URL: CR0137 FPGA Multiplexer Resource Usage.pdf#page=179; ComponentLink1Description: Core &Resource Usage; FunctionalClass: Multiplexer; PortStyle: Bus Version
pins: A[3..0] (in), B[3..0] (in), C[3..0] (in), D[3..0] (in), E[3..0] (in), EI (in), F[3..0] (in), G[3..0] (in), H[3..0] (in), I[3..0] (in), J[3..0] (in), K[3..0] (in), L[3..0] (in), M[3..0] (in), N[3..0] (in), O[3..0] (in), P[3..0] (in), S[3..0] (in), Y[3..0] (out)

## M4_S1S2
designator U?
1x4-Single Wire to 2x4-Single Wire Multiplexer (Demultiplex); SubClass: S1Sn; PortSize: 4; PortStyle: Single Pin Version; ArchiveName: GENERIC; VHDLIB_SIM: GENERIC_LIB; Published: 29-Jan-2004; Publisher: Altium Limited; LastRevisionNo: 1.00.00; HelpURL: CR0118 FPGA Generic Library Guide.pdf#page=328; ComponentLink1URL: CR0137 FPGA Multiplexer Resource Usage.pdf#page=180; ComponentLink1Description: Core &Resource Usage; FunctionalClass: Multiplexer
pins: A0 (out), A1 (out), A2 (out), A3 (out), B0 (out), B1 (out), B2 (out), B3 (out), S0 (in), Y0 (in), Y1 (in), Y2 (in), Y3 (in)

## M4_S1S2E
designator U?
1x4-Single Wire to 2x4-Single Wire Multiplexer (Demultiplex)  With Enable; SubClass: S1Sn; Enable: High; PortSize: 4; PortStyle: Single Pin Version; ArchiveName: GENERIC; VHDLIB_SIM: GENERIC_LIB; Published: 29-Jan-2004; Publisher: Altium Limited; LastRevisionNo: 1.00.00; HelpURL: CR0118 FPGA Generic Library Guide.pdf#page=331; ComponentLink1URL: CR0137 FPGA Multiplexer Resource Usage.pdf#page=181; ComponentLink1Description: Core &Resource Usage; FunctionalClass: Multiplexer
pins: A0 (out), A1 (out), A2 (out), A3 (out), B0 (out), B1 (out), B2 (out), B3 (out), EI (in), S0 (in), Y0 (in), Y1 (in), Y2 (in), Y3 (in)

## M4_S1S4
designator U?
1x4-Single Wire to 4x4-Single Wire Multiplexer (Demultiplex); SubClass: S1Sn; PortSize: 4; PortStyle: Single Pin Version; ArchiveName: GENERIC; VHDLIB_SIM: GENERIC_LIB; Published: 29-Jan-2004; Publisher: Altium Limited; LastRevisionNo: 1.00.00; HelpURL: CR0118 FPGA Generic Library Guide.pdf#page=335; ComponentLink1URL: CR0137 FPGA Multiplexer Resource Usage.pdf#page=182; ComponentLink1Description: Core &Resource Usage; FunctionalClass: Multiplexer
pins: A0 (out), A1 (out), A2 (out), A3 (out), B0 (out), B1 (out), B2 (out), B3 (out), C0 (out), C1 (out), C2 (out), C3 (out), D0 (out), D1 (out), D2 (out), D3 (out), S0 (in), S1 (in), Y0 (in), Y1 (in), Y2 (in), Y3 (in)

## M4_S1S4_SB
designator U?
1x4-Single Wire to 4x4-Single Wire Multiplexer (Demultiplex) With Bus Version Select; SubClass: S1Sn; BusBusSelect: True; PortSize: 4; PortStyle: Single Pin Version; ArchiveName: GENERIC; VHDLIB_SIM: GENERIC_LIB; Published: 31-May-2004; Publisher: Altium Limited; LastRevisionNo: 1.00.00; HelpURL: CR0118 FPGA Generic Library Guide.pdf#page=335; ComponentLink1URL: CR0137 FPGA Multiplexer Resource Usage.pdf#page=183; ComponentLink1Description: Core &Resource Usage; FunctionalClass: Multiplexer
pins: A0 (out), A1 (out), A2 (out), A3 (out), B0 (out), B1 (out), B2 (out), B3 (out), C0 (out), C1 (out), C2 (out), C3 (out), D0 (out), D1 (out), D2 (out), D3 (out), S[1..0] (in), Y0 (in), Y1 (in), Y2 (in), Y3 (in)

## M4_S1S4E
designator U?
1x4-Single Wire to 4x4-Single Wire Multiplexer (Demultiplex)  With Enable; SubClass: S1Sn; Enable: High; PortSize: 4; PortStyle: Single Pin Version; ArchiveName: GENERIC; VHDLIB_SIM: GENERIC_LIB; Published: 29-Jan-2004; Publisher: Altium Limited; LastRevisionNo: 1.00.00; HelpURL: CR0118 FPGA Generic Library Guide.pdf#page=339; ComponentLink1URL: CR0137 FPGA Multiplexer Resource Usage.pdf#page=184; ComponentLink1Description: Core &Resource Usage; FunctionalClass: Multiplexer
pins: A0 (out), A1 (out), A2 (out), A3 (out), B0 (out), B1 (out), B2 (out), B3 (out), C0 (out), C1 (out), C2 (out), C3 (out), D0 (out), D1 (out), D2 (out), D3 (out), EI (in), S0 (in), S1 (in), Y0 (in), Y1 (in), Y2 (in), Y3 (in)

## M4_S1S4E_SB
designator U?
1x4-Single Wire to 4x4-Single Wire Multiplexer (Demultiplex)  With Enable With Bus Version Select; SubClass: S1Sn; Enable: High; BusBusSelect: True; PortSize: 4; PortStyle: Single Pin Version; ArchiveName: GENERIC; VHDLIB_SIM: GENERIC_LIB; Published: 31-May-2004; Publisher: Altium Limited; LastRevisionNo: 1.00.00; HelpURL: CR0118 FPGA Generic Library Guide.pdf#page=339; ComponentLink1URL: CR0137 FPGA Multiplexer Resource Usage.pdf#page=185; ComponentLink1Description: Core &Resource Usage; FunctionalClass: Multiplexer
pins: A0 (out), A1 (out), A2 (out), A3 (out), B0 (out), B1 (out), B2 (out), B3 (out), C0 (out), C1 (out), C2 (out), C3 (out), D0 (out), D1 (out), D2 (out), D3 (out), EI (in), S[1..0] (in), Y0 (in), Y1 (in), Y2 (in), Y3 (in)

## M4_S2S1
designator U?
2x4-Single Wire to 1x4-Single Wire Multiplexer; SubClass: SnS1; PortSize: 4; PortStyle: Single Pin Version; ArchiveName: GENERIC; VHDLIB_SIM: GENERIC_LIB; Published: 29-Jan-2004; Publisher: Altium Limited; LastRevisionNo: 1.00.00; HelpURL: CR0118 FPGA Generic Library Guide.pdf#page=364; ComponentLink1URL: CR0137 FPGA Multiplexer Resource Usage.pdf#page=186; ComponentLink1Description: Core &Resource Usage; FunctionalClass: Multiplexer
pins: A0 (in), A1 (in), A2 (in), A3 (in), B0 (in), B1 (in), B2 (in), B3 (in), S0 (in), Y0 (out), Y1 (out), Y2 (out), Y3 (out)

## M4_S2S1E
designator U?
2x4-Single Wire to 1x4-Single Wire Multiplexer With Enable; SubClass: SnS1; Enable: High; PortSize: 4; PortStyle: Single Pin Version; ArchiveName: GENERIC; VHDLIB_SIM: GENERIC_LIB; Published: 29-Jan-2004; Publisher: Altium Limited; LastRevisionNo: 1.00.00; HelpURL: CR0118 FPGA Generic Library Guide.pdf#page=366; ComponentLink1URL: CR0137 FPGA Multiplexer Resource Usage.pdf#page=187; ComponentLink1Description: Core &Resource Usage; FunctionalClass: Multiplexer
pins: A0 (in), A1 (in), A2 (in), A3 (in), B0 (in), B1 (in), B2 (in), B3 (in), EI (in), S0 (in), Y0 (out), Y1 (out), Y2 (out), Y3 (out)

## M4_S4S1
designator U?
4x4-Single Wire to 1x4-Single Wire Multiplexer; SubClass: SnS1; PortSize: 4; PortStyle: Single Pin Version; ArchiveName: GENERIC; VHDLIB_SIM: GENERIC_LIB; Published: 29-Jan-2004; Publisher: Altium Limited; LastRevisionNo: 1.00.00; HelpURL: CR0118 FPGA Generic Library Guide.pdf#page=370; ComponentLink1URL: CR0137 FPGA Multiplexer Resource Usage.pdf#page=188; ComponentLink1Description: Core &Resource Usage; FunctionalClass: Multiplexer
pins: A0 (in), A1 (in), A2 (in), A3 (in), B0 (in), B1 (in), B2 (in), B3 (in), C0 (in), C1 (in), C2 (in), C3 (in), D0 (in), D1 (in), D2 (in), D3 (in), S0 (in), S1 (in), Y0 (out), Y1 (out), Y2 (out), Y3 (out)

## M4_S4S1_SB
designator U?
4x4-Single Wire to 1x4-Single Wire Multiplexer With Bus Version Select; SubClass: SnS1; BusBusSelect: True; PortSize: 4; PortStyle: Single Pin Version; ArchiveName: GENERIC; VHDLIB_SIM: GENERIC_LIB; Published: 31-May-2004; Publisher: Altium Limited; LastRevisionNo: 1.00.00; HelpURL: CR0118 FPGA Generic Library Guide.pdf#page=370; ComponentLink1URL: CR0137 FPGA Multiplexer Resource Usage.pdf#page=189; ComponentLink1Description: Core &Resource Usage; FunctionalClass: Multiplexer
pins: A0 (in), A1 (in), A2 (in), A3 (in), B0 (in), B1 (in), B2 (in), B3 (in), C0 (in), C1 (in), C2 (in), C3 (in), D0 (in), D1 (in), D2 (in), D3 (in), S[1..0] (in), Y0 (out), Y1 (out), Y2 (out), Y3 (out)

## M4_S4S1E
designator U?
4x4-Single Wire to 1x4-Single Wire Multiplexer With Enable; SubClass: SnS1; Enable: High; PortSize: 4; PortStyle: Single Pin Version; ArchiveName: GENERIC; VHDLIB_SIM: GENERIC_LIB; Published: 29-Jan-2004; Publisher: Altium Limited; LastRevisionNo: 1.00.00; HelpURL: CR0118 FPGA Generic Library Guide.pdf#page=374; ComponentLink1URL: CR0137 FPGA Multiplexer Resource Usage.pdf#page=190; ComponentLink1Description: Core &Resource Usage; FunctionalClass: Multiplexer
pins: A0 (in), A1 (in), A2 (in), A3 (in), B0 (in), B1 (in), B2 (in), B3 (in), C0 (in), C1 (in), C2 (in), C3 (in), D0 (in), D1 (in), D2 (in), D3 (in), EI (in), S0 (in), S1 (in), Y0 (out), Y1 (out), Y2 (out), Y3 (out)

## M4_S4S1E_SB
designator U?
4x4-Single Wire to 1x4-Single Wire Multiplexer With Enable With Bus Version Select; SubClass: SnS1; Enable: High; BusBusSelect: True; PortSize: 4; PortStyle: Single Pin Version; ArchiveName: GENERIC; VHDLIB_SIM: GENERIC_LIB; Published: 31-May-2004; Publisher: Altium Limited; LastRevisionNo: 1.00.00; HelpURL: CR0118 FPGA Generic Library Guide.pdf#page=374; ComponentLink1URL: CR0137 FPGA Multiplexer Resource Usage.pdf#page=191; ComponentLink1Description: Core &Resource Usage; FunctionalClass: Multiplexer
pins: A0 (in), A1 (in), A2 (in), A3 (in), B0 (in), B1 (in), B2 (in), B3 (in), C0 (in), C1 (in), C2 (in), C3 (in), D0 (in), D1 (in), D2 (in), D3 (in), EI (in), S[1..0] (in), Y0 (out), Y1 (out), Y2 (out), Y3 (out)

## M5_B1B2
designator U?
1x5-Bit Bus to 2x5-Bit Bus Multiplexer (Demultiplex); SubClass: B1Bn; PortSize: 5; PortStyle: Bus Version; ArchiveName: GENERIC; VHDLIB_SIM: GENERIC_LIB; Published: 29-Jan-2004; Publisher: Altium Limited; LastRevisionNo: 1.00.00; HelpURL: CR0118 FPGA Generic Library Guide.pdf#page=328; ComponentLink1URL: CR0137 FPGA Multiplexer Resource Usage.pdf#page=192; ComponentLink1Description: Core &Resource Usage; FunctionalClass: Multiplexer
pins: A[4..0] (out), B[4..0] (out), S0 (in), Y[4..0] (in)

## M5_B1B2E
designator U?
1x5-Bit Bus to 2x5-Bit Bus Multiplexer (Demultiplex) With Enable; SubClass: B1Bn; Enable: High; PortSize: 5; PortStyle: Bus Version; ArchiveName: GENERIC; VHDLIB_SIM: GENERIC_LIB; Published: 29-Jan-2004; Publisher: Altium Limited; LastRevisionNo: 1.00.00; HelpURL: CR0118 FPGA Generic Library Guide.pdf#page=331; ComponentLink1URL: CR0137 FPGA Multiplexer Resource Usage.pdf#page=193; ComponentLink1Description: Core &Resource Usage; FunctionalClass: Multiplexer
pins: A[4..0] (out), B[4..0] (out), EI (in), S0 (in), Y[4..0] (in)

## M5_B1B4
designator U?
1x5-Bit Bus to 4x5-Bit Bus Multiplexer (Demultiplex); SubClass: B1Bn; PortSize: 5; PortStyle: Bus Version; ArchiveName: GENERIC; VHDLIB_SIM: GENERIC_LIB; Published: 29-Jan-2004; Publisher: Altium Limited; LastRevisionNo: 1.00.00; HelpURL: CR0118 FPGA Generic Library Guide.pdf#page=335; ComponentLink1URL: CR0137 FPGA Multiplexer Resource Usage.pdf#page=194; ComponentLink1Description: Core &Resource Usage; FunctionalClass: Multiplexer
pins: A[4..0] (out), B[4..0] (out), C[4..0] (out), D[4..0] (out), S0 (in), S1 (in), Y[4..0] (in)

## M5_B1B4_SB
designator U?
1x5-Bit Bus to 4x5-Bit Bus Multiplexer (Demultiplex) With Bus Version Select; SubClass: B1Bn; BusBusSelect: True; PortSize: 5; ArchiveName: GENERIC; VHDLIB_SIM: GENERIC_LIB; Published: 31-May-2004; Publisher: Altium Limited; LastRevisionNo: 1.00.00; HelpURL: CR0118 FPGA Generic Library Guide.pdf#page=335; ComponentLink1URL: CR0137 FPGA Multiplexer Resource Usage.pdf#page=195; ComponentLink1Description: Core &Resource Usage; FunctionalClass: Multiplexer; PortStyle: Bus Version
pins: A[4..0] (out), B[4..0] (out), C[4..0] (out), D[4..0] (out), S[1..0] (in), Y[4..0] (in)

## M5_B1B4E
designator U?
1x5-Bit Bus to 4x5-Bit Bus Multiplexer (Demultiplex) With Enable; SubClass: B1Bn; Enable: High; PortSize: 5; PortStyle: Bus Version; ArchiveName: GENERIC; VHDLIB_SIM: GENERIC_LIB; Published: 29-Jan-2004; Publisher: Altium Limited; LastRevisionNo: 1.00.00; HelpURL: CR0118 FPGA Generic Library Guide.pdf#page=339; ComponentLink1URL: CR0137 FPGA Multiplexer Resource Usage.pdf#page=196; ComponentLink1Description: Core &Resource Usage; FunctionalClass: Multiplexer
pins: A[4..0] (out), B[4..0] (out), C[4..0] (out), D[4..0] (out), EI (in), S0 (in), S1 (in), Y[4..0] (in)

## M5_B1B4E_SB
designator U?
1x5-Bit Bus to 4x5-Bit Bus Multiplexer (Demultiplex) With Enable With Bus Version Select; SubClass: B1Bn; Enable: High; BusBusSelect: True; PortSize: 5; ArchiveName: GENERIC; VHDLIB_SIM: GENERIC_LIB; Published: 31-May-2004; Publisher: Altium Limited; LastRevisionNo: 1.00.00; HelpURL: CR0118 FPGA Generic Library Guide.pdf#page=339; ComponentLink1URL: CR0137 FPGA Multiplexer Resource Usage.pdf#page=197; ComponentLink1Description: Core &Resource Usage; FunctionalClass: Multiplexer; PortStyle: Bus Version
pins: A[4..0] (out), B[4..0] (out), C[4..0] (out), D[4..0] (out), EI (in), S[1..0] (in), Y[4..0] (in)

## M5_B1B8
designator U?
1x5-Bit Bus to 8x5-Bit Bus Multiplexer (Demultiplex); SubClass: B1Bn; PortSize: 5; PortStyle: Bus Version; ArchiveName: GENERIC; VHDLIB_SIM: GENERIC_LIB; Published: 29-Jan-2004; Publisher: Altium Limited; LastRevisionNo: 1.00.00; HelpURL: CR0118 FPGA Generic Library Guide.pdf#page=345; ComponentLink1URL: CR0137 FPGA Multiplexer Resource Usage.pdf#page=198; ComponentLink1Description: Core &Resource Usage; FunctionalClass: Multiplexer
pins: A[4..0] (out), B[4..0] (out), C[4..0] (out), D[4..0] (out), E[4..0] (out), F[4..0] (out), G[4..0] (out), H[4..0] (out), S0 (in), S1 (in), S2 (in), Y[4..0] (in)

## M5_B1B8_SB
designator U?
1x5-Bit Bus to 8x5-Bit Bus Multiplexer (Demultiplex) With Bus Version Select; SubClass: B1Bn; BusBusSelect: True; PortSize: 5; ArchiveName: GENERIC; VHDLIB_SIM: GENERIC_LIB; Published: 31-May-2004; Publisher: Altium Limited; LastRevisionNo: 1.00.00; HelpURL: CR0118 FPGA Generic Library Guide.pdf#page=345; ComponentLink1URL: CR0137 FPGA Multiplexer Resource Usage.pdf#page=199; ComponentLink1Description: Core &Resource Usage; FunctionalClass: Multiplexer; PortStyle: Bus Version
pins: A[4..0] (out), B[4..0] (out), C[4..0] (out), D[4..0] (out), E[4..0] (out), F[4..0] (out), G[4..0] (out), H[4..0] (out), S[2..0] (in), Y[4..0] (in)

## M5_B1B8E
designator U?
1x5-Bit Bus to 8x5-Bit Bus Multiplexer (Demultiplex) With Enable; SubClass: B1Bn; Enable: High; PortSize: 5; PortStyle: Bus Version; ArchiveName: GENERIC; VHDLIB_SIM: GENERIC_LIB; Published: 29-Jan-2004; Publisher: Altium Limited; LastRevisionNo: 1.00.00; HelpURL: CR0118 FPGA Generic Library Guide.pdf#page=350; ComponentLink1URL: CR0137 FPGA Multiplexer Resource Usage.pdf#page=200; ComponentLink1Description: Core &Resource Usage; FunctionalClass: Multiplexer
pins: A[4..0] (out), B[4..0] (out), C[4..0] (out), D[4..0] (out), E[4..0] (out), EI (in), F[4..0] (out), G[4..0] (out), H[4..0] (out), S0 (in), S1 (in), S2 (in), Y[4..0] (in)

## M5_B1B8E_SB
designator U?
1x5-Bit Bus to 8x5-Bit Bus Multiplexer (Demultiplex) With Enable With Bus Version Select; SubClass: B1Bn; Enable: High; BusBusSelect: True; PortSize: 5; ArchiveName: GENERIC; VHDLIB_SIM: GENERIC_LIB; Published: 31-May-2004; Publisher: Altium Limited; LastRevisionNo: 1.00.00; HelpURL: CR0118 FPGA Generic Library Guide.pdf#page=350; ComponentLink1URL: CR0137 FPGA Multiplexer Resource Usage.pdf#page=201; ComponentLink1Description: Core &Resource Usage; FunctionalClass: Multiplexer; PortStyle: Bus Version
pins: A[4..0] (out), B[4..0] (out), C[4..0] (out), D[4..0] (out), E[4..0] (out), EI (in), F[4..0] (out), G[4..0] (out), H[4..0] (out), S[2..0] (in), Y[4..0] (in)

## M5_B1B16
designator U?
1x5-Bit Bus to 16x5-Bit Bus Multiplexer (Demultiplex); SubClass: B1Bn; PortSize: 5; PortStyle: Bus Version; ArchiveName: GENERIC; VHDLIB_SIM: GENERIC_LIB; Published: 29-Jan-2004; Publisher: Altium Limited; LastRevisionNo: 1.00.00; HelpURL: CR0118 FPGA Generic Library Guide.pdf#page=355; ComponentLink1URL: CR0137 FPGA Multiplexer Resource Usage.pdf#page=202; ComponentLink1Description: Core &Resource Usage; FunctionalClass: Multiplexer
pins: A[4..0] (out), B[4..0] (out), C[4..0] (out), D[4..0] (out), E[4..0] (out), F[4..0] (out), G[4..0] (out), H[4..0] (out), I[4..0] (out), J[4..0] (out), K[4..0] (out), L[4..0] (out), M[4..0] (out), N[4..0] (out), O[4..0] (out), P[4..0] (out), S0 (in), S1 (in), S2 (in), S3 (in), Y[4..0] (in)

## M5_B1B16_SB
designator U?
1x5-Bit Bus to 16x5-Bit Bus Multiplexer (Demultiplex) With Bus Version Select; SubClass: B1Bn; BusBusSelect: True; PortSize: 5; ArchiveName: GENERIC; VHDLIB_SIM: GENERIC_LIB; Published: 29-Jan-2004; Publisher: Altium Limited; LastRevisionNo: 1.00.00; HelpURL: CR0118 FPGA Generic Library Guide.pdf#page=355; ComponentLink1URL: CR0137 FPGA Multiplexer Resource Usage.pdf#page=203; ComponentLink1Description: Core &Resource Usage; FunctionalClass: Multiplexer; PortStyle: Bus Version
pins: A[4..0] (out), B[4..0] (out), C[4..0] (out), D[4..0] (out), E[4..0] (out), F[4..0] (out), G[4..0] (out), H[4..0] (out), I[4..0] (out), J[4..0] (out), K[4..0] (out), L[4..0] (out), M[4..0] (out), N[4..0] (out), O[4..0] (out), P[4..0] (out), S[3..0] (in), Y[4..0] (in)

## M5_B1B16E
designator U?
1x5-Bit Bus to 16x5-Bit Bus Multiplexer (Demultiplex) With Enable; SubClass: B1Bn; Enable: High; PortSize: 5; PortStyle: Bus Version; ArchiveName: GENERIC; VHDLIB_SIM: GENERIC_LIB; Published: 29-Jan-2004; Publisher: Altium Limited; LastRevisionNo: 1.00.00; HelpURL: CR0118 FPGA Generic Library Guide.pdf#page=360; ComponentLink1URL: CR0137 FPGA Multiplexer Resource Usage.pdf#page=204; ComponentLink1Description: Core &Resource Usage; FunctionalClass: Multiplexer
pins: A[4..0] (out), B[4..0] (out), C[4..0] (out), D[4..0] (out), E[4..0] (out), EI (in), F[4..0] (out), G[4..0] (out), H[4..0] (out), I[4..0] (out), J[4..0] (out), K[4..0] (out), L[4..0] (out), M[4..0] (out), N[4..0] (out), O[4..0] (out), P[4..0] (out), S0 (in), S1 (in), S2 (in), S3 (in), Y[4..0] (in)

## M5_B1B16E_SB
designator U?
1x5-Bit Bus to 16x5-Bit Bus Multiplexer (Demultiplex) With Enable and Bus Version Select; SubClass: B1Bn; Enable: High; BusBusSelect: True; PortSize: 5; ArchiveName: GENERIC; VHDLIB_SIM: GENERIC_LIB; Published: 29-Jan-2004; Publisher: Altium Limited; LastRevisionNo: 1.00.00; HelpURL: CR0118 FPGA Generic Library Guide.pdf#page=355; ComponentLink1URL: CR0137 FPGA Multiplexer Resource Usage.pdf#page=205; ComponentLink1Description: Core &Resource Usage; FunctionalClass: Multiplexer; PortStyle: Bus Version
pins: A[4..0] (out), B[4..0] (out), C[4..0] (out), D[4..0] (out), E[4..0] (out), EI (in), F[4..0] (out), G[4..0] (out), H[4..0] (out), I[4..0] (out), J[4..0] (out), K[4..0] (out), L[4..0] (out), M[4..0] (out), N[4..0] (out), O[4..0] (out), P[4..0] (out), S[3..0] (in), Y[4..0] (in)

## M5_B2B1
designator U?
2x5-Bit Bus to 1x5-Bit Bus Multiplexer; SubClass: BnB1; PortSize: 5; PortStyle: Bus Version; ArchiveName: GENERIC; VHDLIB_SIM: GENERIC_LIB; Published: 29-Jan-2004; Publisher: Altium Limited; LastRevisionNo: 1.00.00; HelpURL: CR0118 FPGA Generic Library Guide.pdf#page=366; ComponentLink1URL: CR0137 FPGA Multiplexer Resource Usage.pdf#page=206; ComponentLink1Description: Core &Resource Usage; FunctionalClass: Multiplexer
pins: A[4..0] (in), B[4..0] (in), S0 (in), Y[4..0] (out)

## M5_B2B1E
designator U?
2x5-Bit Bus to 1x5-Bit Bus Multiplexer With Enable; SubClass: BnB1; Enable: High; PortSize: 5; PortStyle: Bus Version; ArchiveName: GENERIC; VHDLIB_SIM: GENERIC_LIB; Published: 29-Jan-2004; Publisher: Altium Limited; LastRevisionNo: 1.00.00; HelpURL: CR0118 FPGA Generic Library Guide.pdf#page=366; ComponentLink1URL: CR0137 FPGA Multiplexer Resource Usage.pdf#page=207; ComponentLink1Description: Core &Resource Usage; FunctionalClass: Multiplexer
pins: A[4..0] (in), B[4..0] (in), EI (in), S0 (in), Y[4..0] (out)

## M5_B4B1
designator U?
4x5-Bit Bus to 1x5-Bit Bus Multiplexer; SubClass: BnB1; PortSize: 5; PortStyle: Bus Version; ArchiveName: GENERIC; VHDLIB_SIM: GENERIC_LIB; Published: 29-Jan-2004; Publisher: Altium Limited; LastRevisionNo: 1.00.00; HelpURL: CR0118 FPGA Generic Library Guide.pdf#page=374; ComponentLink1URL: CR0137 FPGA Multiplexer Resource Usage.pdf#page=208; ComponentLink1Description: Core &Resource Usage; FunctionalClass: Multiplexer
pins: A[4..0] (in), B[4..0] (in), C[4..0] (in), D[4..0] (in), S0 (in), S1 (in), Y[4..0] (out)

## M5_B4B1_SB
designator U?
4x5-Bit Bus to 1x5-Bit Bus Multiplexer With Bus Version Select; SubClass: BnB1; BusBusSelect: True; PortSize: 5; ArchiveName: GENERIC; VHDLIB_SIM: GENERIC_LIB; Published: 31-May-2004; Publisher: Altium Limited; LastRevisionNo: 1.00.00; HelpURL: CR0118 FPGA Generic Library Guide.pdf#page=370; ComponentLink1URL: CR0137 FPGA Multiplexer Resource Usage.pdf#page=209; ComponentLink1Description: Core &Resource Usage; FunctionalClass: Multiplexer; PortStyle: Bus Version
pins: A[4..0] (in), B[4..0] (in), C[4..0] (in), D[4..0] (in), S[1..0] (in), Y[4..0] (out)

## M5_B4B1E
designator U?
4x5-Bit Bus to 1x5-Bit Bus Multiplexer With Enable; SubClass: BnB1; Enable: High; PortSize: 5; PortStyle: Bus Version; ArchiveName: GENERIC; VHDLIB_SIM: GENERIC_LIB; Published: 29-Jan-2004; Publisher: Altium Limited; LastRevisionNo: 1.00.00; HelpURL: CR0118 FPGA Generic Library Guide.pdf#page=374; ComponentLink1URL: CR0137 FPGA Multiplexer Resource Usage.pdf#page=210; ComponentLink1Description: Core &Resource Usage; FunctionalClass: Multiplexer
pins: A[4..0] (in), B[4..0] (in), C[4..0] (in), D[4..0] (in), EI (in), S0 (in), S1 (in), Y[4..0] (out)

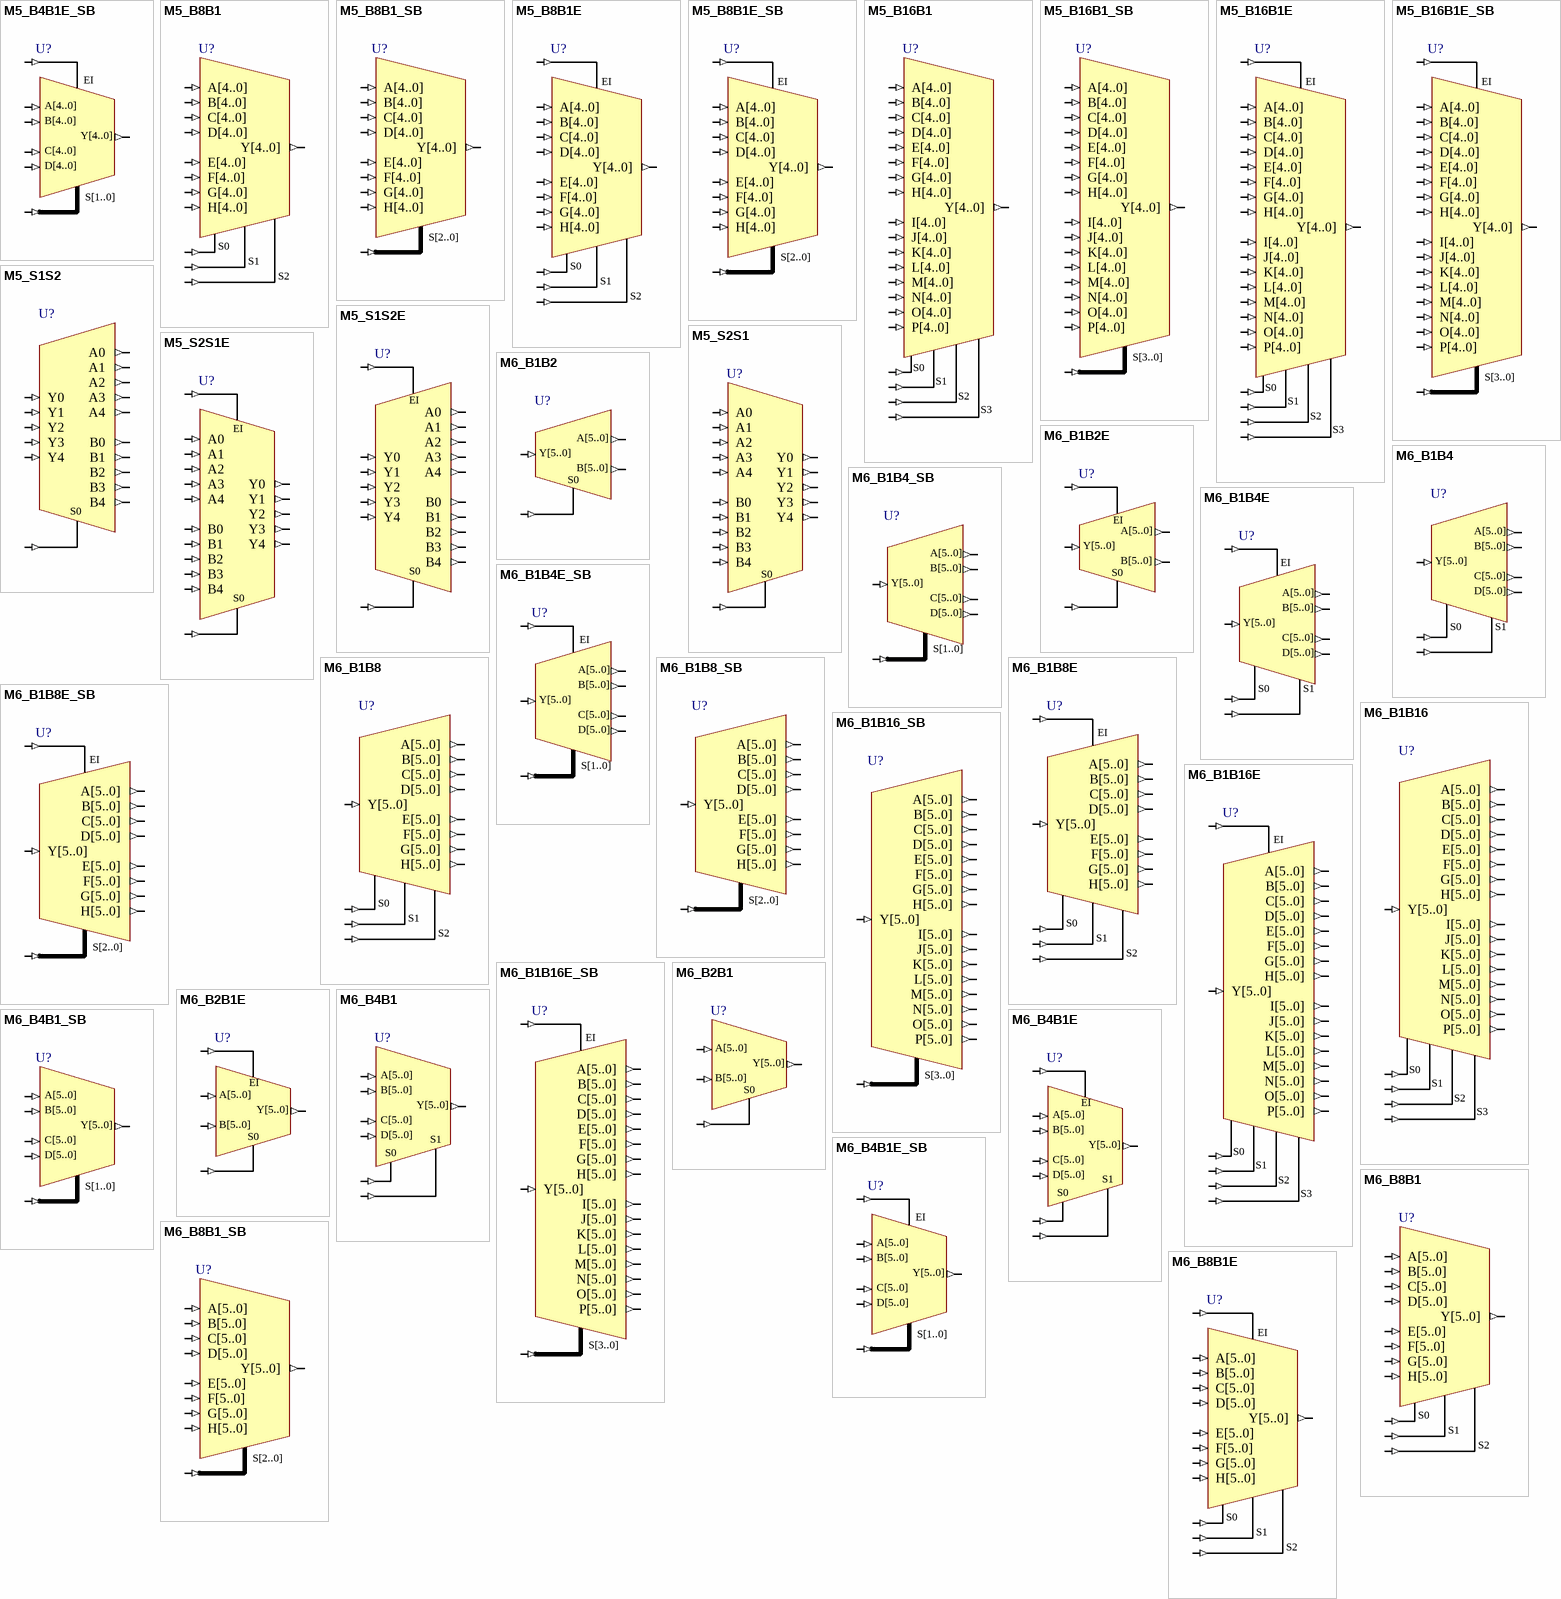
[diagram p26: symbols M5_B4B1E_SB to M6_B8B1E]

## M5_B4B1E_SB
designator U?
4x5-Bit Bus to 1x5-Bit Bus Multiplexer With Enable With Bus Version Select; SubClass: BnB1; Enable: High; BusBusSelect: True; PortSize: 5; ArchiveName: GENERIC; VHDLIB_SIM: GENERIC_LIB; Published: 31-May-2004; Publisher: Altium Limited; LastRevisionNo: 1.00.00; HelpURL: CR0118 FPGA Generic Library Guide.pdf#page=374; ComponentLink1URL: CR0137 FPGA Multiplexer Resource Usage.pdf#page=211; ComponentLink1Description: Core &Resource Usage; FunctionalClass: Multiplexer; PortStyle: Bus Version
pins: A[4..0] (in), B[4..0] (in), C[4..0] (in), D[4..0] (in), EI (in), S[1..0] (in), Y[4..0] (out)

## M5_B8B1
designator U?
8x5-Bit Bus to 1x5-Bit Bus Multiplexer; SubClass: BnB1; PortSize: 5; PortStyle: Bus Version; ArchiveName: GENERIC; VHDLIB_SIM: GENERIC_LIB; Published: 29-Jan-2004; Publisher: Altium Limited; LastRevisionNo: 1.00.00; HelpURL: CR0118 FPGA Generic Library Guide.pdf#page=383; ComponentLink1URL: CR0137 FPGA Multiplexer Resource Usage.pdf#page=212; ComponentLink1Description: Core &Resource Usage; FunctionalClass: Multiplexer
pins: A[4..0] (in), B[4..0] (in), C[4..0] (in), D[4..0] (in), E[4..0] (in), F[4..0] (in), G[4..0] (in), H[4..0] (in), S0 (in), S1 (in), S2 (in), Y[4..0] (out)

## M5_B8B1_SB
designator U?
8x5-Bit Bus to 1x5-Bit Bus Multiplexer With Bus Version Select; SubClass: BnB1; BusBusSelect: True; PortSize: 5; ArchiveName: GENERIC; VHDLIB_SIM: GENERIC_LIB; Published: 31-May-2004; Publisher: Altium Limited; LastRevisionNo: 1.00.00; HelpURL: CR0118 FPGA Generic Library Guide.pdf#page=379; ComponentLink1URL: CR0137 FPGA Multiplexer Resource Usage.pdf#page=213; ComponentLink1Description: Core &Resource Usage; FunctionalClass: Multiplexer; PortStyle: Bus Version
pins: A[4..0] (in), B[4..0] (in), C[4..0] (in), D[4..0] (in), E[4..0] (in), F[4..0] (in), G[4..0] (in), H[4..0] (in), S[2..0] (in), Y[4..0] (out)